# EAGLE library part TPD4E001 (library m_diode)
4-CHANNEL ESD PROTECTION ARRAY WITH 1.5-pF IO CAPACITANCE 4-Channel ESD Clamp Array to Enhance System-Level ESD Protection Exceeds IEC61000-4-2 (Level 4) ESD Protection Requirements ±8-kV IEC 61000-4-2 Contact Discharge ±15-kV IEC 61000-4-2 Air-Gap Discharge ±15-kV Human-Body Model (HBM) 5.5-A Peak Pulse Current (8/20-us Pulse) Low 1.5-pF Input Capacitance Low 1-nA (Max) Leakage Current 0.9-V to 5.5-V Supply-Voltage Range Space-Saving DRL, DBV, DCK, and DRS Package Options Alternate 2-, 3-, 6-Channel Options Available: TPD2E001, TPD3E001, and TPD6E001 DESCRIPTION The TPD4E001 is a low-capacitance ±15-kV ESD-protection diode array designed to protect sensitive electronics attached to communication lines. Each channel consists of a pair of diodes that steer ESD current pulses to VCC or GND. The TPD4E001 protects against ESD pulses up to ±15-kV Human-Body Model (HBM), ±8-kV Contact Discharge, and ±15-kV Air-Gap Discharge, as specified in IEC 61000-4-2. This device has a 1.5-pF IO capacitance per channel, making it ideal for use in high-speed data IO interfaces. The ultra low leakage current (1 nA max) is suitable for precision analog measurements in applications like glucose meters, heart rate monitors, etc. The TPD4E001 is available in DRL, DBV (SOT-23), DCK (SC-70), DRS (QFN), and DPK (PUSON) packages and is specified for –40°C to 85°C operation.
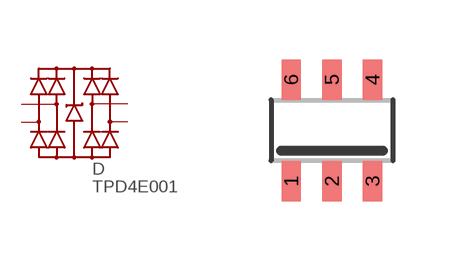
[diagram p0: symbol with the pads of SOT23-6; footprint SOT23-6]

Designator prefix D

## TPD4E001DBV (MANUF: TI; PARTNUM: TPD4E001DBV*)  [SOT23-6]
1  IO1  pas
2  GND  pas
3  IO2  pas
4  IO3  pas
5  VCC  pas
6  IO4  pas

## Footprint SOT23-6 (pad centres in mm)
SOT-23-6 Update 2020-07-25: Add keepout, fix name and value font, add tglue, set SMD pad roundness to 5% from 0%.
smd 0.508 x 1.016: 1 -1.016,-1.27; 2 0,-1.27; 3 1.016,-1.27; 4 1.016,1.27; 5 0,1.27; 6 -1.016,1.27